# Altium footprint library InterfaceBoard.PcbLib: 15 footprints
Each footprint in its own frame and in the unit in brackets; x right, y up, seen from the top. Pads: shape width x height; smd on the part's side, far side on the other; paste and mask are expansions set on the pad; w line width, h text height; cw(c..) or ccw(c..) is an arc to the next point about the centre after c.
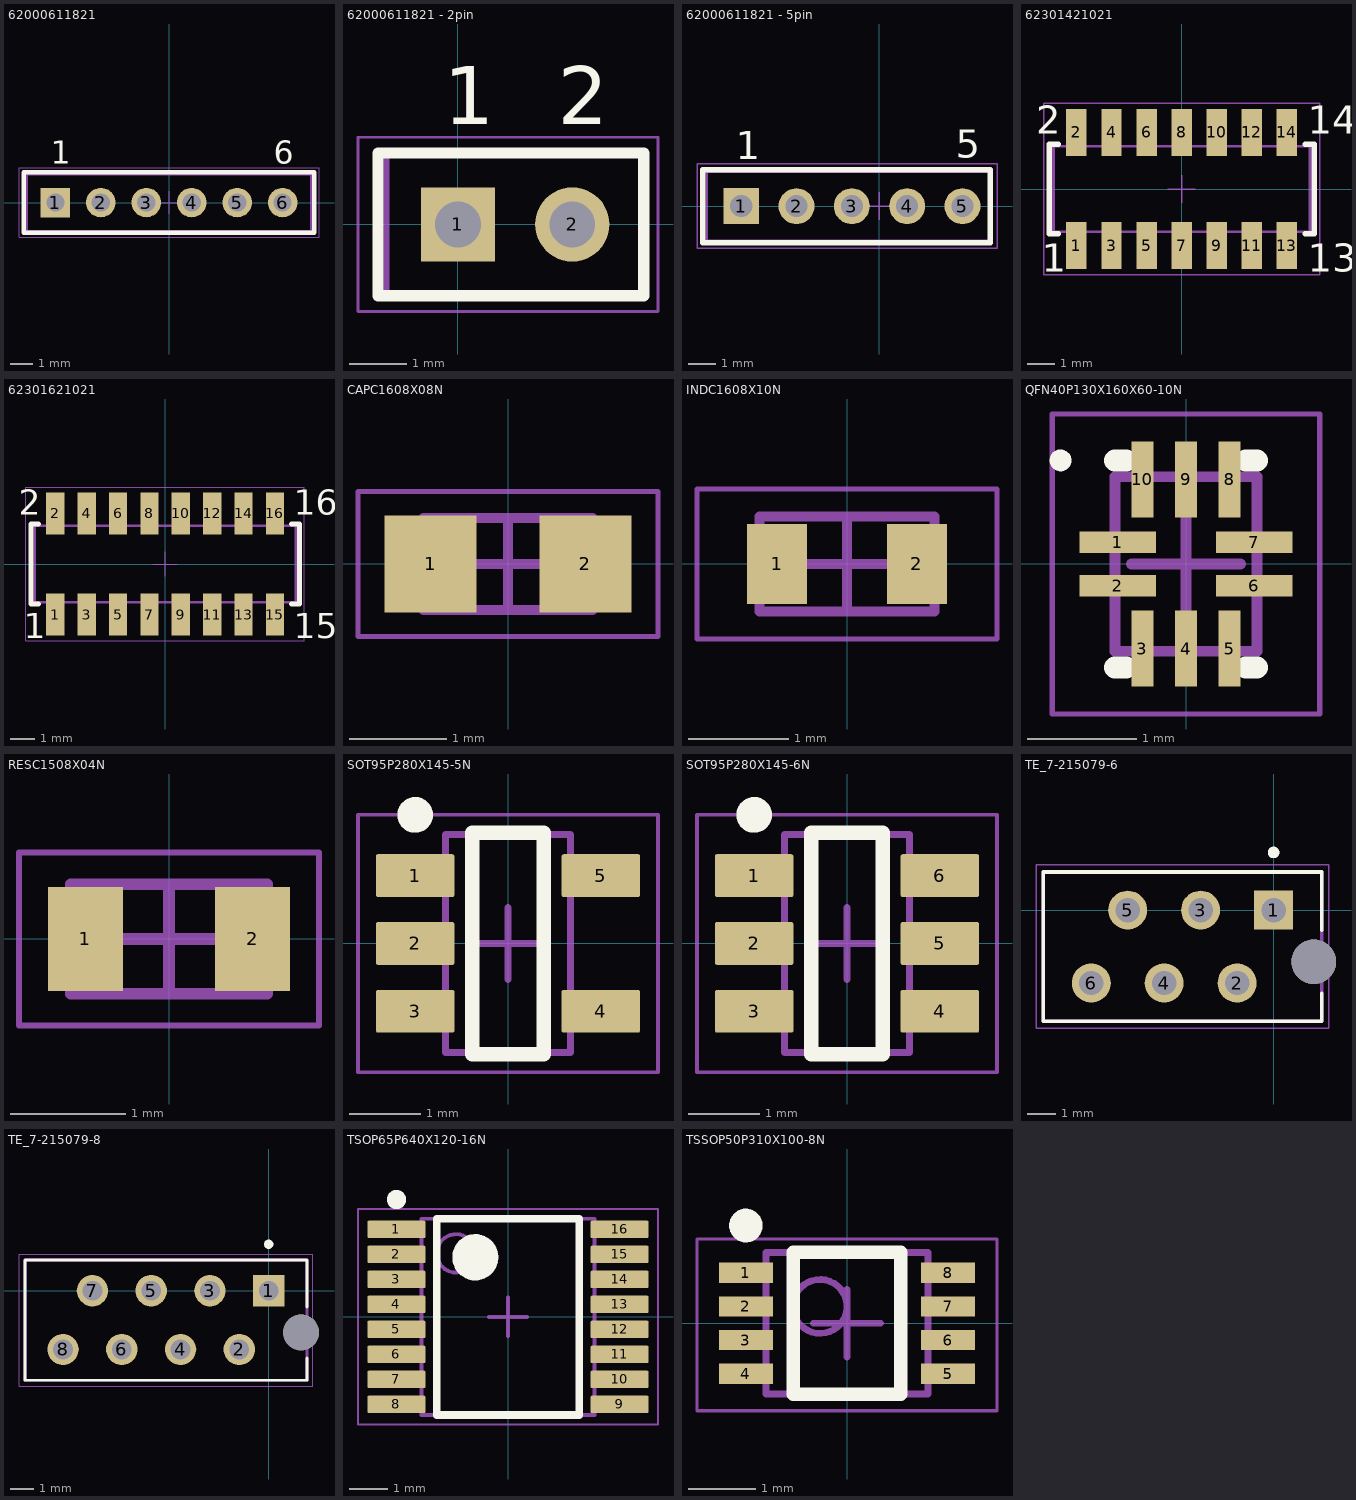
[diagram p0: the footprints below, top view; thin cyan lines are the x and y axes]

## 62000611821 [mm] "Socket Header, Pitch 2.00 mm, THT, Vertical, single row, 6p"
height 4.45
pads (6):
  rect 1.3x1.3 hole 0.8: 1(-5,0)
  round 1.3 hole 0.8: 2(-3,0) 3(-1,0) 4(1,0) 5(3,0) 6(5,0)
Top Overlay:
  lines w0.2: -6.4,-1.325 -6.4,1.325 6.4,1.325 6.4,-1.325 -6.4,-1.325
  text "1" at -5.2,1.7 h1.02
  text "6" at 4.6,1.7 h1.02
Top 3D Body:
  lines w0.1: -6.25,-1.25 -6.25,1.25 6.25,1.25 6.25,-1.25 -6.25,-1.25
Top Courtyard (Mech15):
  lines w0.05: -0.5,0 0.5,0 ; 0,-0.5 0,0.5 ; -6.6,-1.525 -6.6,1.525 6.6,1.525 6.6,-1.525 -6.6,-1.525
3D body "62000611821.stp": height 4.35, standoff -2.65, extent -6.25,-1.25 6.25,1.25

## 62000611821 - 2pin [mm] "Socket Header, Pitch 2.00 mm, THT, Vertical, single row, 6p"
height 4.45
pads (2):
  rect 1.3x1.3 hole 0.8: 1(0,0)
  round 1.3 hole 0.8: 2(2,0)
Top Overlay:
  lines w0.2: -1.4,-1.25 -1.4,1.25 3.25,1.25 3.25,0.875 3.25,0.062 3.25,-0.062 3.25,-0.375 3.25,-1.25 -1.4,-1.25
  text "1" at -0.25,1.75 h1.02
  text "2" at 1.75,1.75 h1.02
Top 3D Body:
  lines w0.1: -1.25,-1.25 -1.25,1.25 3.25,1.25 3.25,-1.25 -1.25,-1.25
Top Courtyard (Mech15):
  lines w0.05: -0.5,0 0.5,0 ; 0,-0.5 0,0.5 ; -1.75,-1.525 -1.75,1.525 3.5,1.525 3.5,1.512 3.5,-0.013 3.5,-1.525 -1.75,-1.525
3D body "62000611821-2pin.stp": height 4.35, standoff -2.65, extent -1.25,-1.25 3,1.25

## 62000611821 - 5pin [mm] "Socket Header, Pitch 2.00 mm, THT, Vertical, single row, 6p"
height 4.45
pads (5):
  rect 1.3x1.3 hole 0.8: 1(-5,0)
  round 1.3 hole 0.8: 2(-3,0) 3(-1,0) 4(1,0) 5(3,0)
Top Overlay:
  lines w0.2: -6.4,-1.325 4,-1.325 4,-0.75 4,0.806 4,1.325 -6.4,1.325 -6.4,-1.325
  text "5" at 2.75,1.75 h1.02
  text "1" at -5.2,1.7 h1.02
Top 3D Body:
  lines w0.1: -6.25,-1.25 4,-1.25 4,1.25 -6.25,1.25 -6.25,-1.25
Top Courtyard (Mech15):
  lines w0.05: -0.5,0 0.5,0 ; 0,-0.5 0,0.5 ; -6.6,-1.525 4.25,-1.525 4.25,1.525 -6.6,1.525 -6.6,-1.525
3D body "62000611821.stp": height 4.35, standoff -2.65, extent -6.25,-1.25 4,1.25

## 62301421021 [mm] "Socket Header, Pitch 1.27 mm, SMT, Vertical, dual row, 14p"
height 4.7
pads (14):
  rect 0.74x1.7 smd: 1(-3.81,-2.05) 2(-3.81,2.05) 3(-2.54,-2.05) 4(-2.54,2.05) 5(-1.27,-2.05) 6(-1.27,2.05) 7(0,-2.05) 8(0,2.05) 9(1.27,-2.05) 10(1.27,2.05) 11(2.54,-2.05) 12(2.54,2.05) 13(3.81,-2.05) 14(3.81,2.05)
Top Overlay:
  lines w0.2: -4.475,-1.625 -4.795,-1.625 -4.795,1.625 -4.475,1.625 ; 4.475,-1.625 4.795,-1.625 4.795,1.625 4.475,1.625
  text "14" at 4.575,2 h1.02
  text "13" at 4.575,-3 h1.02
  text "2" at -5.275,2 h1.02
  text "1" at -5.075,-3 h1.02
Top 3D Body:
  lines w0.1: -4.06,-1.55 -4.06,-2.3 -3.56,-2.3 -3.56,-1.55 ; -4.06,1.55 -4.06,2.3 -3.56,2.3 -3.56,1.55 ; -2.79,-1.55 -2.79,-2.3 -2.29,-2.3 -2.29,-1.55 ; -2.79,1.55 -2.79,2.3 -2.29,2.3 -2.29,1.55 ; -1.52,-1.55 -1.52,-2.3 -1.02,-2.3 -1.02,-1.55 ; -1.52,1.55 -1.52,2.3 -1.02,2.3 -1.02,1.55 ; -0.25,-1.55 -0.25,-2.3 0.25,-2.3 0.25,-1.55 ; -0.25,1.55 -0.25,2.3 0.25,2.3 0.25,1.55 ; 1.02,-1.55 1.02,-2.3 1.52,-2.3 1.52,-1.55 ; 1.02,1.55 1.02,2.3 1.52,2.3 1.52,1.55 ; 2.29,-1.55 2.29,-2.3 2.79,-2.3 2.79,-1.55 ; 2.29,1.55 2.29,2.3 2.79,2.3 2.79,1.55 ; 3.56,-1.55 3.56,-2.3 4.06,-2.3 4.06,-1.55 ; 3.56,1.55 3.56,2.3 4.06,2.3 4.06,1.55 ; -4.645,-1.55 4.645,-1.55 4.645,1.55 -4.645,1.55 -4.645,-1.55
Top Courtyard (Mech15):
  lines w0.05: -0.5,0 0.5,0 ; 0,-0.5 0,0.5 ; -4.995,-3.1 -4.995,3.1 4.995,3.1 4.995,-3.1 -4.995,-3.1
3D body "62301421021.stp": height 4.6, standoff 0, extent -4.645,-2.299 4.645,2.299

## 62301621021 [mm] "Socket Header, Pitch 1.27 mm, SMT, Vertical, dual row, 16p"
height 4.7
pads (16):
  rect 0.74x1.7 smd: 1(-4.445,-2.05) 2(-4.445,2.05) 3(-3.175,-2.05) 4(-3.175,2.05) 5(-1.905,-2.05) 6(-1.905,2.05) 7(-0.635,-2.05) 8(-0.635,2.05) 9(0.635,-2.05) 10(0.635,2.05) 11(1.905,-2.05) 12(1.905,2.05) 13(3.175,-2.05) 14(3.175,2.05) 15(4.445,-2.05) 16(4.445,2.05)
Top Overlay:
  lines w0.2: -5.11,-1.625 -5.43,-1.625 -5.43,1.625 -5.11,1.625 ; 5.11,-1.625 5.43,-1.625 5.43,1.625 5.11,1.625
  text "16" at 5.21,2 h1.02
  text "15" at 5.21,-3 h1.02
  text "2" at -5.91,2 h1.02
  text "1" at -5.71,-3 h1.02
Top Assembly:
  text "'.Designator'" at -1.075,-0.5 h1.5
Top 3D Body:
  lines w0.1: -4.695,-1.55 -4.695,-2.3 -4.195,-2.3 -4.195,-1.55 ; -4.695,1.55 -4.695,2.3 -4.195,2.3 -4.195,1.55 ; -3.425,-1.55 -3.425,-2.3 -2.925,-2.3 -2.925,-1.55 ; -3.425,1.55 -3.425,2.3 -2.925,2.3 -2.925,1.55 ; -2.155,-1.55 -2.155,-2.3 -1.655,-2.3 -1.655,-1.55 ; -2.155,1.55 -2.155,2.3 -1.655,2.3 -1.655,1.55 ; -0.885,-1.55 -0.885,-2.3 -0.385,-2.3 -0.385,-1.55 ; -0.885,1.55 -0.885,2.3 -0.385,2.3 -0.385,1.55 ; 0.385,-1.55 0.385,-2.3 0.885,-2.3 0.885,-1.55 ; 0.385,1.55 0.385,2.3 0.885,2.3 0.885,1.55 ; 1.655,-1.55 1.655,-2.3 2.155,-2.3 2.155,-1.55 ; 1.655,1.55 1.655,2.3 2.155,2.3 2.155,1.55 ; 2.925,-1.55 2.925,-2.3 3.425,-2.3 3.425,-1.55 ; 2.925,1.55 2.925,2.3 3.425,2.3 3.425,1.55 ; 4.195,-1.55 4.195,-2.3 4.695,-2.3 4.695,-1.55 ; 4.195,1.55 4.195,2.3 4.695,2.3 4.695,1.55 ; -5.28,-1.55 5.28,-1.55 5.28,1.55 -5.28,1.55 -5.28,-1.55
Top Courtyard (Mech15):
  lines w0.05: -0.5,0 0.5,0 ; 0,-0.5 0,0.5 ; -5.63,-3.1 -5.63,3.1 5.63,3.1 5.63,-3.1 -5.63,-3.1
3D body "62301621021.stp": height 4.6, standoff 0, extent -5.28,-2.299 5.28,2.299

## CAPC1608X08N [mm] "Chip Capacitor, 2-Leads, Body 1.60x0.80mm, IPC Medium Density"
height 0.8
pads (2):
  rect 0.95x1 smd: 1(-0.8,0) 2(0.8,0)
Top Assembly:
  lines w0.1: -0.875,-0.475 0.875,-0.475 0.875,0.475 -0.875,0.475 -0.875,-0.475
  text "'.Designator'" at -0.875,-0.475 h1.5
Top Courtyard (Mech15):
  lines w0.05: -1.55,-0.75 1.55,-0.75 1.55,0.75 -1.55,0.75 -1.55,-0.75
  lines w0.1: -0.475,0 0.475,0 ; 0,-0.475 0,0.475
3D body "CAPC1608X08N.step": height 0.8, standoff 0, extent -0.875,-0.475 0.875,0.475

## INDC1608X10N [mm] "Chip Inductor, 2-Leads, Body 1.60x0.80mm, IPC Medium Density"
height 0.95
pads (2):
  rect 0.6x0.8 smd: 1(-0.7,0) 2(0.7,0)
Top Assembly:
  lines w0.1: -0.875,-0.475 -0.875,0.475 0.875,0.475 0.875,-0.475 -0.875,-0.475
Top Courtyard (Mech15):
  lines w0.05: -1.5,-0.75 -1.5,0.75 1.5,0.75 1.5,-0.75 -1.5,-0.75
  lines w0.1: -0.475,0 0.475,0 ; 0,-0.475 0,0.475
3D body "INDC1608X10N.step": height 0.95, standoff 0, extent -0.875,-0.475 0.875,0.475

## QFN40P130X160X60-10N [mm] "QFN, 10-Leads, Body 1.30x1.60mm, Pitch 0.40mm, IPC Medium Density"
height 0.6
pads (10):
  rect 0.7x0.2 smd: 1(-0.625,0.2) 2(-0.625,-0.2) 6(0.625,-0.2) 7(0.625,0.2)
  rect 0.2x0.7 smd: 3(-0.4,-0.775) 4(0,-0.775) 5(0.4,-0.775) 8(0.4,0.775) 9(0,0.775) 10(-0.4,0.775)
Top Overlay:
  circle w0.1: c-1.15,0.95 r0.05
  lines w0.2: -0.65,-0.95 -0.55,-0.95 ; -0.65,0.95 -0.55,0.95 ; 0.55,-0.95 0.65,-0.95 ; 0.55,0.95 0.65,0.95
Top Assembly:
  lines w0.1: -0.65,-0.8 -0.65,0.8 0.65,0.8 0.65,-0.8 -0.65,-0.8
  text "'.Designator'" at -1.1,-0.45 h1.5
Top Courtyard (Mech15):
  lines w0.05: -1.225,-1.375 -1.225,1.375 1.225,1.375 1.225,-1.375 -1.225,-1.375
  lines w0.1: -0.5,0 0.5,0 ; 0,-0.5 0,0.5
3D body "QFN40P130X160X60-10N.step": height 0.6, standoff 0, extent -0.67,-0.82 0.67,0.82

## RESC1508X04N [mm] "Chip Resistor, 2-Leads, Body 1.55x0.80mm, IPC Medium Density"
height 0.45
pads (2):
  rect 0.65x0.9 smd: 1(-0.725,0) 2(0.725,0)
Top Assembly:
  lines w0.1: -0.85,-0.475 -0.85,0.475 0.85,0.475 0.85,-0.475 -0.85,-0.475
  text "'.Designator'" at -1,-0.5 h1.5
Top Courtyard (Mech15):
  lines w0.05: -1.3,-0.75 -1.3,0.75 1.3,0.75 1.3,-0.75 -1.3,-0.75
  lines w0.1: -0.475,0 0.475,0 ; 0,-0.475 0,0.475
3D body "RESC1508X04N.step": height 0.45, standoff 0, extent -0.85,-0.475 0.85,0.475

## SOT95P280X145-5N [mm] "SOT23, 5-Leads, Body 2.90x2.80mm, Pitch 0.95mm, IPC Medium Density"
height 1.45
pads (5):
  rrect10% 1.1x0.6 smd: 1(-1.3,0.95) 2(-1.3,0) 3(-1.3,-0.95) 4(1.3,-0.95) 5(1.3,0.95)
Top Overlay:
  circle w0.25: c-1.3,1.8 r0.125
  lines w0.2: -0.5,-1.55 -0.5,1.55 0.5,1.55 0.5,-1.55 -0.5,-1.55
Top Assembly:
  lines w0.1: -0.875,-1.525 0.875,-1.525 0.875,1.525 -0.875,1.525 -0.875,-1.525
  text "'.Designator'" at -1,-0.5 h1.5
Top Courtyard (Mech15):
  lines w0.05: -2.1,-1.8 2.1,-1.8 2.1,1.8 -2.1,1.8 -2.1,-1.8
  lines w0.1: -0.5,0 0.5,0 ; 0,-0.5 0,0.5
3D body "SOT95P280X145-5N.step": height 1.45, standoff 0, extent -1.5,-1.525 1.5,1.525

## SOT95P280X145-6N [mm] "SOT23, 6-Leads, Body 2.90x2.80mm, Pitch 0.95mm, IPC Medium Density"
height 1.45
pads (6):
  rrect10% 1.1x0.6 smd: 1(-1.3,0.95) 2(-1.3,0) 3(-1.3,-0.95) 4(1.3,-0.95) 5(1.3,0) 6(1.3,0.95)
Top Overlay:
  circle w0.25: c-1.3,1.8 r0.125
  lines w0.2: -0.5,-1.55 0.5,-1.55 0.5,1.55 -0.5,1.55 -0.5,-1.55
Top Assembly:
  lines w0.1: -0.875,-1.525 -0.875,1.525 0.875,1.525 0.875,-1.525 -0.875,-1.525
  text "'.Designator'" at -1,-0.5 h1.5
Top Courtyard (Mech15):
  lines w0.05: -2.1,-1.8 -2.1,1.8 2.1,1.8 2.1,-1.8 -2.1,-1.8
  lines w0.1: -0.5,0 0.5,0 ; 0,-0.5 0,0.5
3D body "SOT95P280X145-6N.step": height 1.45, standoff 0, extent -1.5,-1.525 1.5,1.525

## TE_7-215079-6 [mm]
pads (7):
  rect 1.358x1.358 hole 0.85: 1(0,0)
  round 1.358 hole 0.85: 2(-1.27,-2.54) 3(-2.54,0) 4(-3.81,-2.54) 5(-5.08,0) 6(-6.35,-2.54)
  round 1.55 hole 1.55 unplated: ""(1.4,-1.8)
Top Overlay:
  circle w0.2: c0,2.008 r0.1
  lines w0.127: 1.675,-2.9 1.675,-3.87 -8.025,-3.87 -8.025,1.33 1.675,1.33 1.675,-0.7
Top 3D Body:
  circle w0.2: c0,2.008 r0.1
  lines w0.127: -8.025,-3.87 -8.025,1.33 1.675,1.33 1.675,-3.87 -8.025,-3.87
Top Courtyard (Mech15):
  lines w0.05: -8.275,-4.12 -8.275,1.58 1.925,1.58 1.925,-4.12 -8.275,-4.12
3D body "7-215079-6--3DModel-STEP-56544.STEP": height 4.2, standoff -3.3, extent -8.001,-3.81 1.699,1.39

## TE_7-215079-8 [mm]
pads (9):
  rect 1.358x1.358 hole 0.85: 1(0,0)
  round 1.358 hole 0.85: 2(-1.27,-2.54) 3(-2.54,0) 4(-3.81,-2.54) 5(-5.08,0) 6(-6.35,-2.54) 7(-7.62,0) 8(-8.89,-2.54)
  round 1.55 hole 1.55 unplated: ""(1.4,-1.8)
Top Overlay:
  circle w0.2: c0,2.008 r0.1
  lines w0.127: 1.655,-2.9 1.655,-3.87 -10.545,-3.87 -10.545,1.33 1.655,1.33 1.655,-0.7
Top 3D Body:
  circle w0.2: c0,2.008 r0.1
  lines w0.127: -10.545,-3.87 -10.545,1.33 1.655,1.33 1.655,-3.87 -10.545,-3.87
Top Courtyard (Mech15):
  lines w0.05: -10.795,-4.12 -10.795,1.58 1.905,1.58 1.905,-4.12 -10.795,-4.12
3D body "7-215079-8.stp": height 4.1, standoff -3.05, extent -10.541,-3.77 1.549,1.23

## TSOP65P640X120-16N [mm] "TSOP, 16-Leads, Body 5.00x4.40mm, Pitch 0.65mm, IPC Medium Density"
height 1.2
pads (16):
  rrect10% 1.5x0.45 smd: 1(-2.9,2.275) 2(-2.9,1.625) 3(-2.9,0.975) 4(-2.9,0.325) 5(-2.9,-0.325) 6(-2.9,-0.975) 7(-2.9,-1.625) 8(-2.9,-2.275) 9(2.9,-2.275) 10(2.9,-1.625) 11(2.9,-0.975) 12(2.9,-0.325) 13(2.9,0.325) 14(2.9,0.975) 15(2.9,1.625) 16(2.9,2.275)
Top Overlay:
  circle w0.6: c-0.85,1.55 r0.3
  circle w0.25: c-2.9,3.05 r0.125
  lines w0.2: -1.85,-2.55 1.85,-2.55 1.85,2.55 -1.85,2.55 -1.85,-2.55
Top Assembly:
  circle w0.1: c-1.35,1.65 r0.5
  lines w0.1: -2.25,-2.55 2.25,-2.55 2.25,2.55 -2.25,2.55 -2.25,-2.55
  text "'.Designator'" at -1,-0.5 h1.5
Top Courtyard (Mech15):
  lines w0.05: -3.9,-2.8 3.9,-2.8 3.9,2.8 -3.9,2.8 -3.9,-2.8
  lines w0.1: -0.5,0 0.5,0 ; 0,-0.5 0,0.5
3D body "TSOP65P640X120-16N.step": height 1.2, standoff 0, extent -3.2,-2.55 3.2,2.55

## TSSOP50P310X100-8N [mm] "TSSOP, 8-Leads, Body 2.00x2.30mm, Pitch 0.50mm, IPC Medium Density"
height 1
pads (8):
  rect 0.8x0.3 smd: 1(-1.5,0.75) 2(-1.5,0.25) 3(-1.5,-0.25) 4(-1.5,-0.75) 5(1.5,-0.75) 6(1.5,-0.25) 7(1.5,0.25) 8(1.5,0.75)
Top Overlay:
  circle w0.25: c-1.5,1.45 r0.125
  lines w0.2: -0.8,-1.05 -0.8,1.05 0.8,1.05 0.8,-1.05 -0.8,-1.05
Top Assembly:
  circle w0.1: c-0.4,0.25 r0.4
  lines w0.1: -1.2,-1.05 -1.2,1.05 1.2,1.05 1.2,-1.05 -1.2,-1.05
  text "'.Designator'" at -1,-0.5 h1.5
Top Courtyard (Mech15):
  lines w0.05: -2.225,-1.3 -2.225,1.25 2.225,1.25 2.225,-1.3 -2.225,-1.3
  lines w0.1: -0.5,0 0.5,0 ; 0,-0.5 0,0.5
3D body "TSSOP50P310X100-8N.step": height 1, standoff 0, extent -1.549,-1.05 1.549,1.05